# EAGLE library part WE-POE (library WE-POE)
Transformer for Power-over-Ethernet WE-PoE - Flyback converter transducer particularly for PoE PDs - Insulation voltage 1,5 kVAC/1 min - Input voltages 36V till 57V -- Flyback converters -- Power-over-Ethernet PDs
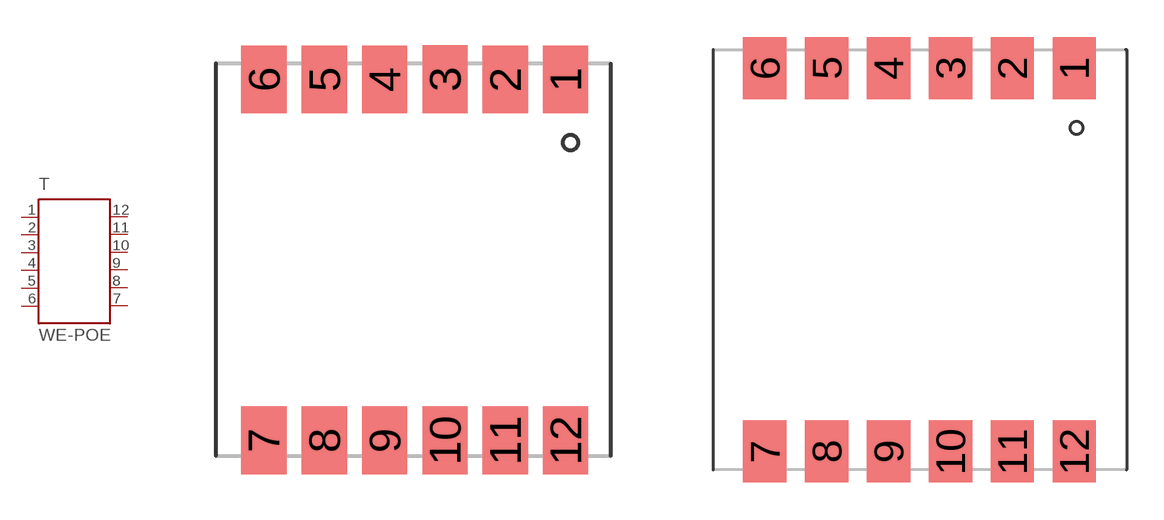
[diagram p0: symbol with the pads of WE_ER11/5_SMD_12PIN; footprints WE_ER11/5_SMD_12PIN, WE_ER14.5/6_SMD_12PIN]

Designator prefix T

## WE-POE_ER11/5, WE-POE-749119133_ER11/5 (MPN: 749119133; OC_FARNELL: 1848995; OC_NEWARK: 13T9803; PACKAGE: ER/11/5; SUPPLIER: Wuerth Elektronik), WE-POE-749119150_ER11/5 (MPN: 749119150; OC_FARNELL: 1848996; OC_NEWARK: 13T9804; PACKAGE: ER/11/5; SUPPLIER: Wuerth Elektronik)  [WE_ER11/5_SMD_12PIN]
1  1  pas
2  2  pas
3  3  pas
4  4  pas
5  5  pas
6  6  pas
7  7  pas
8  8  pas
9  9  pas
10  10  pas
11  11  pas
12  12  pas

## WE-POE_ER14.5/6, WE-POE-749119218_ER14.5/6 (MPN: 749119218; OC_FARNELL: 1848997; OC_NEWARK: 13T9805; PACKAGE: ER14.5/6; SUPPLIER: Wuerth Elektronik), WE-POE-749119233_ER14.5/6 (MPN: 749119233; OC_FARNELL: 1848998; OC_NEWARK: 13T9806; PACKAGE: ER14.5/6; SUPPLIER: Wuerth Elektronik), WE-POE-749119250_ER14.5/6 (MPN: 749119250; OC_FARNELL: 1849000; OC_NEWARK: 13T9807; PACKAGE: ER14.5/6; SUPPLIER: Wuerth Elektronik), WE-POE-7491192912_ER14.5/6 (MPN: 7491192912; OC_FARNELL: 1849002; OC_NEWARK: 13T9808; PACKAGE: ER14.5/6; SUPPLIER: Wuerth Elektronik)  [WE_ER14.5/6_SMD_12PIN]
Pads as for WE_ER11/5_SMD_12PIN

## WE-POE_EFD15, WE-POE-749119318_EFD15 (MPN: 749119318; OC_FARNELL: 1849003; OC_NEWARK: 13T9809; PACKAGE: EFD15; SUPPLIER: Wuerth Elektronik), WE-POE-749119333_EFD15 (MPN: 749119333; OC_FARNELL: 1849004; OC_NEWARK: 13T9810; PACKAGE: EFD15; SUPPLIER: Wuerth Elektronik), WE-POE-749119350_EFD15 (MPN: 749119350; OC_FARNELL: 1849005; OC_NEWARK: 13T9811; PACKAGE: EFD15; SUPPLIER: Wuerth Elektronik), WE-POE-7491193912_EFD15 (MPN: 7491193912; OC_FARNELL: 1849006; OC_NEWARK: 13T9812; PACKAGE: EFD15; SUPPLIER: Wuerth Elektronik)  [WE_EFD15_SMD_12PIN]
Pads as for WE_ER11/5_SMD_12PIN

## Footprint WE_ER11/5_SMD_12PIN (pad centres in mm)
Transformer, ER11/5 SMD 12Pin
smd 1.5 x 2.25: 1 4.92,5.9; 2 2.92,5.9; 3 0.92,5.91; 4 -1.08,5.9; 5 -3.08,5.9; 6 -5.08,5.9; 7 -5.08,-6.07; 8 -3.08,-6.07; 9 -1.08,-6.07; 10 0.92,-6.07; 11 2.92,-6.07; 12 4.92,-6.07

## Footprint WE_ER14.5/6_SMD_12PIN (pad centres in mm)
Transformer, ER14.5/6 SMD 12Pin
smd 1.75 x 2.5: 1 6.26,7.75; 2 3.76,7.75; 3 1.26,7.75; 4 -1.24,7.75; 5 -3.74,7.75; 6 -6.24,7.75; 7 -6.24,-7.75; 8 -3.74,-7.75; 9 -1.24,-7.75; 10 1.26,-7.75; 11 3.76,-7.75; 12 6.26,-7.75

## Footprint WE_EFD15_SMD_12PIN (pad centres in mm)
Transformer, EFD15 SMD 12 Pin
smd 2.62 x 1.17: 1 -9.895,6.225; 2 -9.895,3.735; 3 -9.895,1.245; 4 -9.895,-1.245; 5 -9.895,-3.735; 6 -9.895,-6.225; 7 9.895,-6.225; 8 9.895,-3.735; 9 9.895,-1.245; 10 9.895,1.245; 11 9.895,3.735; 12 9.895,6.225